# Altium schematic symbol library BSH103BKR.SchLib: 1 symbol
Pins are listed as number, name and electrical type; pins without a type are passive.

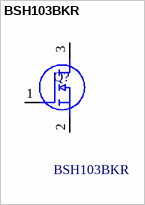
[diagram p0: symbol BSH103BKR]

## BSH103BKR
designator Q?
NEXPERIA - BSH103BKR - Power MOSFET, N Channel, 30 V, 1 A, 0.23 ohm, SOT-23, Surface Mount; Geometry.Height: 1.1mm; Mouser Part Number: 771-BSH103BKR; Mouser Price/Stock: https://www.mouser.co.uk/ProductDetail/Nexperia/BSH103BKR?qs=GCAb4wyKXLKD%2FWt2ta8c7Q%3D%3D; Manufacturer_Name: Nexperia; Manufacturer_Part_Number: BSH103BKR; Datasheet Link: https://ms.componentsearchengine.com/Datasheets/2/BSH103BKR.pdf
footprint SOT95P230X110-3N
pins: 1 G, 2 S, 3 D